# Altium footprint library P7805Q24S5S.PcbLib: 1 footprints
Each footprint in its own frame and in the unit in brackets; x right, y up, seen from the top. Pads: shape width x height; smd on the part's side, far side on the other; paste and mask are expansions set on the pad; w line width, h text height; cw(c..) or ccw(c..) is an arc to the next point about the centre after c.
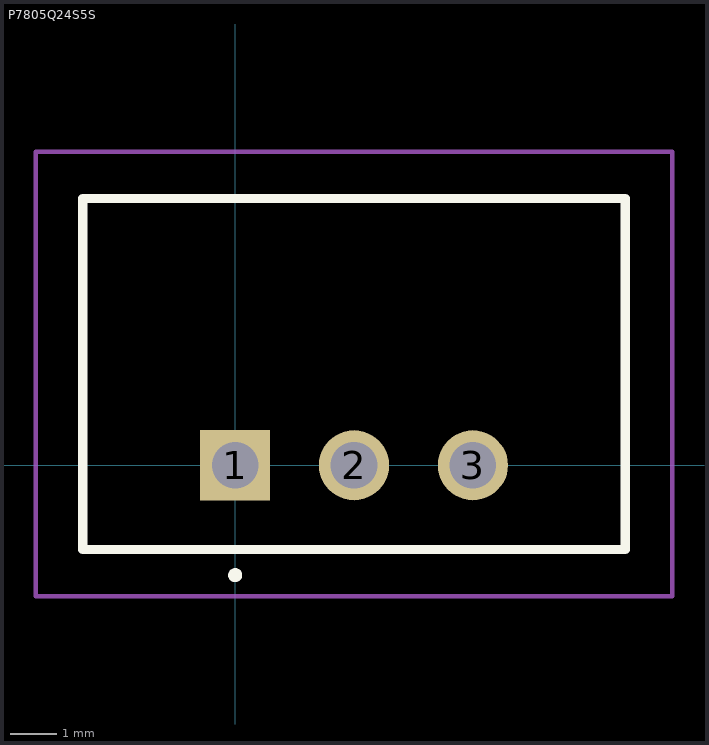
[diagram p0: the footprint, top view; thin cyan lines are the x and y axes]

## P7805Q24S5S [mm]
pads (3):
  rect 1.5x1.5 hole 1: 1(0,0)
  round 1.5 hole 1: 2(2.54,0) 3(5.08,0)
Top Overlay:
  lines w0.2: 0,-2.4 ccw(c0,-2.35) 0,-2.3 ; 0,-2.4 cw(c0,-2.35) 0,-2.3 ; 0,-2.4 ccw(c0,-2.35) 0,-2.3 ; -3.26,-1.8 -3.26,5.7 8.34,5.7 8.34,-1.8 -3.26,-1.8
Mechanical 15:
  lines w0.1: -3.26,-1.8 -3.26,5.7 8.34,5.7 8.34,-1.8 -3.26,-1.8
Mechanical 20:
  lines w0.1: -4.26,-2.8 -4.26,6.7 9.34,6.7 9.34,-2.8 -4.26,-2.8
3D body "P7805-Q24-S5-S.stp": height 10.21, standoff -4.09, extent -3.26,-1.8 8.34,5.7